# Altium footprint library SMD Resistors 0603.PcbLib: 67 footprints (part 5 of 5)
Each footprint in its own frame and in the unit in brackets; x right, y up, seen from the top. Pads: shape width x height; smd on the part's side, far side on the other; paste and mask are expansions set on the pad; w line width, h text height; cw(c..) or ccw(c..) is an arc to the next point about the centre after c.
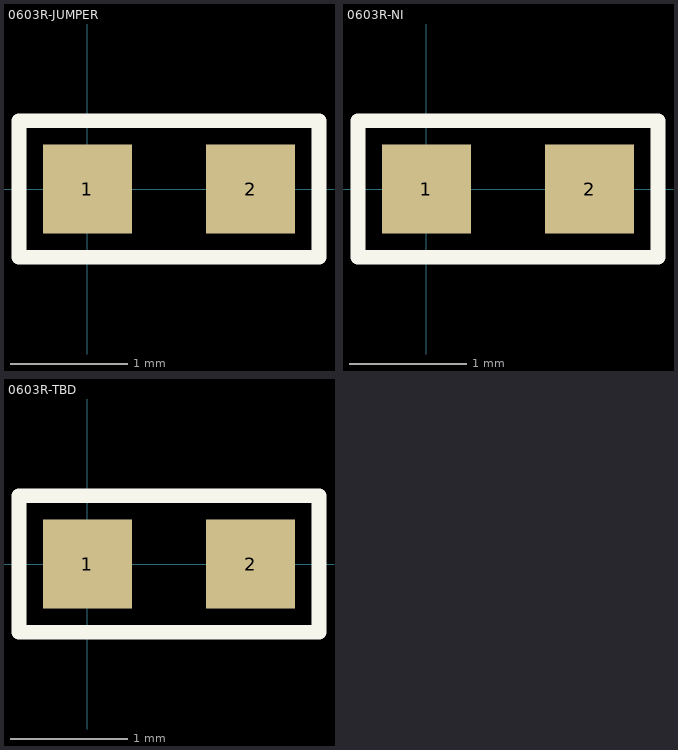
[diagram p4: the footprints below, top view; thin cyan lines are the x and y axes]

## 0603R-JUMPER [mil] "RESISTOR 0603"
pads (2):
  rect 30x30 smd: 1(0,0) 2(55,0)
Top Overlay:
  lines w5: -23,-23 -23,23 78,23 78,-23 -23,-23
3D body: height 20, standoff 19, extent 28.5,-4.5 33.5,5.5
3D body: height 20, standoff 19, extent 21.5,-4.5 26.5,5.5
3D body: height 18, standoff 0, extent -3,-14 58,14
3D body: height 19, standoff 18, extent 5,-13 50,13
3D body: height 19, standoff 0, extent 50,-15 59,15
3D body: height 19, standoff 0, extent -4,-15 5,15

## 0603R-NI [mil] "RESISTOR 0603 NON INSTALLED"
pads (2):
  rect 30x30 smd: 1(0,0) 2(55,0)
Top Overlay:
  lines w5: -23,-23 -23,23 78,23 78,-23 -23,-23
3D body: height 4, standoff 2, extent 0.25,-15 55,15

## 0603R-TBD [mil] "RESISTOR 0603 VALUE TO BE DETERMINED"
pads (2):
  rect 30x30 smd: 1(0,0) 2(55,0)
Top Overlay:
  lines w5: -23,-23 -23,23 78,23 78,-23 -23,-23
3D body: height 20, standoff 19, extent 23,-3.5 28,4.5
3D body: height 18, standoff 0, extent -3,-14 58,14
3D body: height 19, standoff 18, extent 5,-13 50,13
3D body: height 19, standoff 0, extent 50,-15 59,15
3D body: height 19, standoff 0, extent -4,-15 5,15
3D body: height 20, standoff 19, extent 25,-5.5 26,-4.5
3D body: height 20, standoff 19, extent 31.5,-5.5 32.5,-4.5
3D body: height 20, standoff 19, extent 29.5,-3.5 34.5,4.5
3D body: height 20, standoff 19, extent 18.5,-5.5 19.5,-4.5
3D body: height 20, standoff 19, extent 16.5,-3.5 21.5,4.5